# Altium footprint library FUSE_1812.PcbLib: 1 footprints
Each footprint in its own frame and in the unit in brackets; x right, y up, seen from the top. Pads: shape width x height; smd on the part's side, far side on the other; paste and mask are expansions set on the pad; w line width, h text height; cw(c..) or ccw(c..) is an arc to the next point about the centre after c.
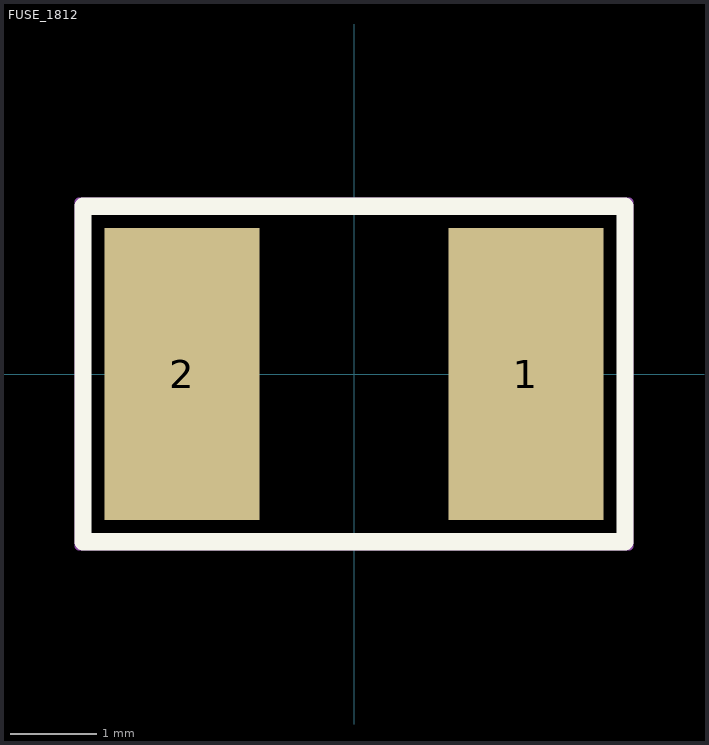
[diagram p0: the footprint, top view; thin cyan lines are the x and y axes]

## FUSE_1812 [mm]
pads (2):
  rect 1.8x3.4 smd: 1(2,0) 2(-2,0)
Top Overlay:
  lines w0.2: -3.15,-1.95 -3.15,1.95 3.15,1.95 3.15,-1.95 -3.15,-1.95
Top Courtyard:
  lines w0.1: -3.2,-2 3.2,-2 3.2,2 -3.2,2 -3.2,-2
3D body "1812L110_24DR.STEP": height 1.25, standoff 0, extent -2.275,-1.62 2.275,1.62